# EAGLE library part BQ779 (library BQ779)
TI BQ77904/BQ77905 Lithium protection IC
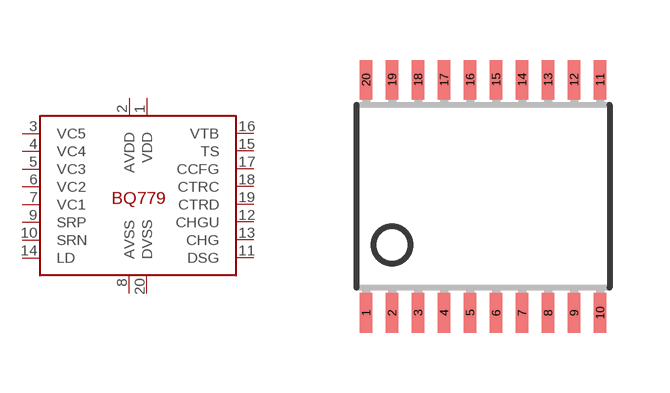
[diagram p0: symbol with the pads of TSSOP20; footprint TSSOP20]

Designator prefix U

## BQ779  [TSSOP20]
1  VDD  pwr
2  AVDD  pwr
3  VC5  in
4  VC4  in
5  VC3  in
6  VC2  in
7  VC1  in
8  AVSS  pwr
9  SRP  in
10  SRN  in
11  DSG  out
12  CHGU  out
13  CHG  out
14  LD  in
15  TS  in
16  VTB  out
17  CCFG  in
18  CTRC  in
19  CTRD  in
20  DVSS  pwr

## Footprint TSSOP20 (pad centres in mm)
smd 0.305 x 0.991: 1 -2.925,-2.918; 2 -2.275,-2.918; 3 -1.625,-2.918; 4 -0.975,-2.918; 5 -0.325,-2.918; 6 0.325,-2.918; 7 0.975,-2.918; 8 1.625,-2.918; 9 2.275,-2.918; 10 2.925,-2.918; 11 2.925,2.918; 12 2.275,2.918; 13 1.625,2.918; 14 0.975,2.918; 15 0.325,2.918; 16 -0.325,2.918; 17 -0.975,2.918; 18 -1.625,2.918; 19 -2.275,2.918; 20 -2.925,2.918